# Altium footprint library SN74HCT273DW.PcbLib: 1 footprints
Each footprint in its own frame and in the unit in brackets; x right, y up, seen from the top. Pads: shape width x height; smd on the part's side, far side on the other; paste and mask are expansions set on the pad; w line width, h text height; cw(c..) or ccw(c..) is an arc to the next point about the centre after c.
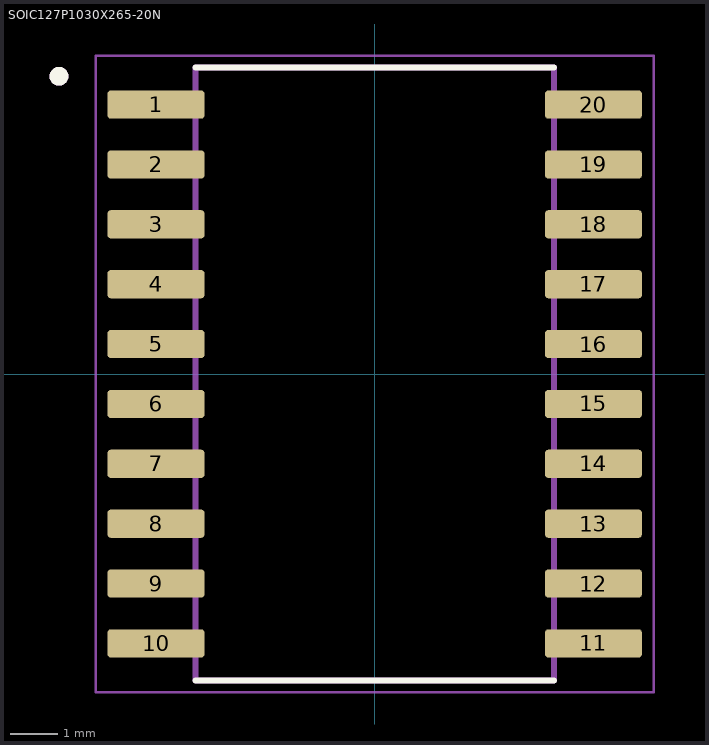
[diagram p0: the footprint, top view; thin cyan lines are the x and y axes]

## SOIC127P1030X265-20N [mm]
pads (20):
  rrect25% 2.06x0.6 smd: 1(-4.64,5.715) 2(-4.64,4.445) 3(-4.64,3.175) 4(-4.64,1.905) 5(-4.64,0.635) 6(-4.64,-0.635) 7(-4.64,-1.905) 8(-4.64,-3.175) 9(-4.64,-4.445) 10(-4.64,-5.715) 11(4.64,-5.715) 12(4.64,-4.445) 13(4.64,-3.175) 14(4.64,-1.905) 15(4.64,-0.635) 16(4.64,0.635) 17(4.64,1.905) 18(4.64,3.175) 19(4.64,4.445) 20(4.64,5.715)
Top Overlay:
  circle w0.2: c-6.7,6.315 r0.1
  lines w0.127: -3.8,-6.5 3.8,-6.5 ; -3.8,6.5 3.8,6.5
Mechanical 13:
  circle w0.2: c-6.7,6.315 r0.1
  lines w0.127: -3.8,-6.5 -3.8,6.5 3.8,6.5 3.8,-6.5 -3.8,-6.5
Mechanical 15:
  lines w0.05: -5.92,-6.75 -5.92,6.75 5.92,6.75 5.92,-6.75 -5.92,-6.75
3D body "step_temp.STEP": height 2.65, standoff 0, extent -5.15,-6.4 5.15,6.4